# Altium schematic symbol library transformer.SchLib: 29 symbols
Pins are listed as number, name and electrical type; pins without a type are passive.

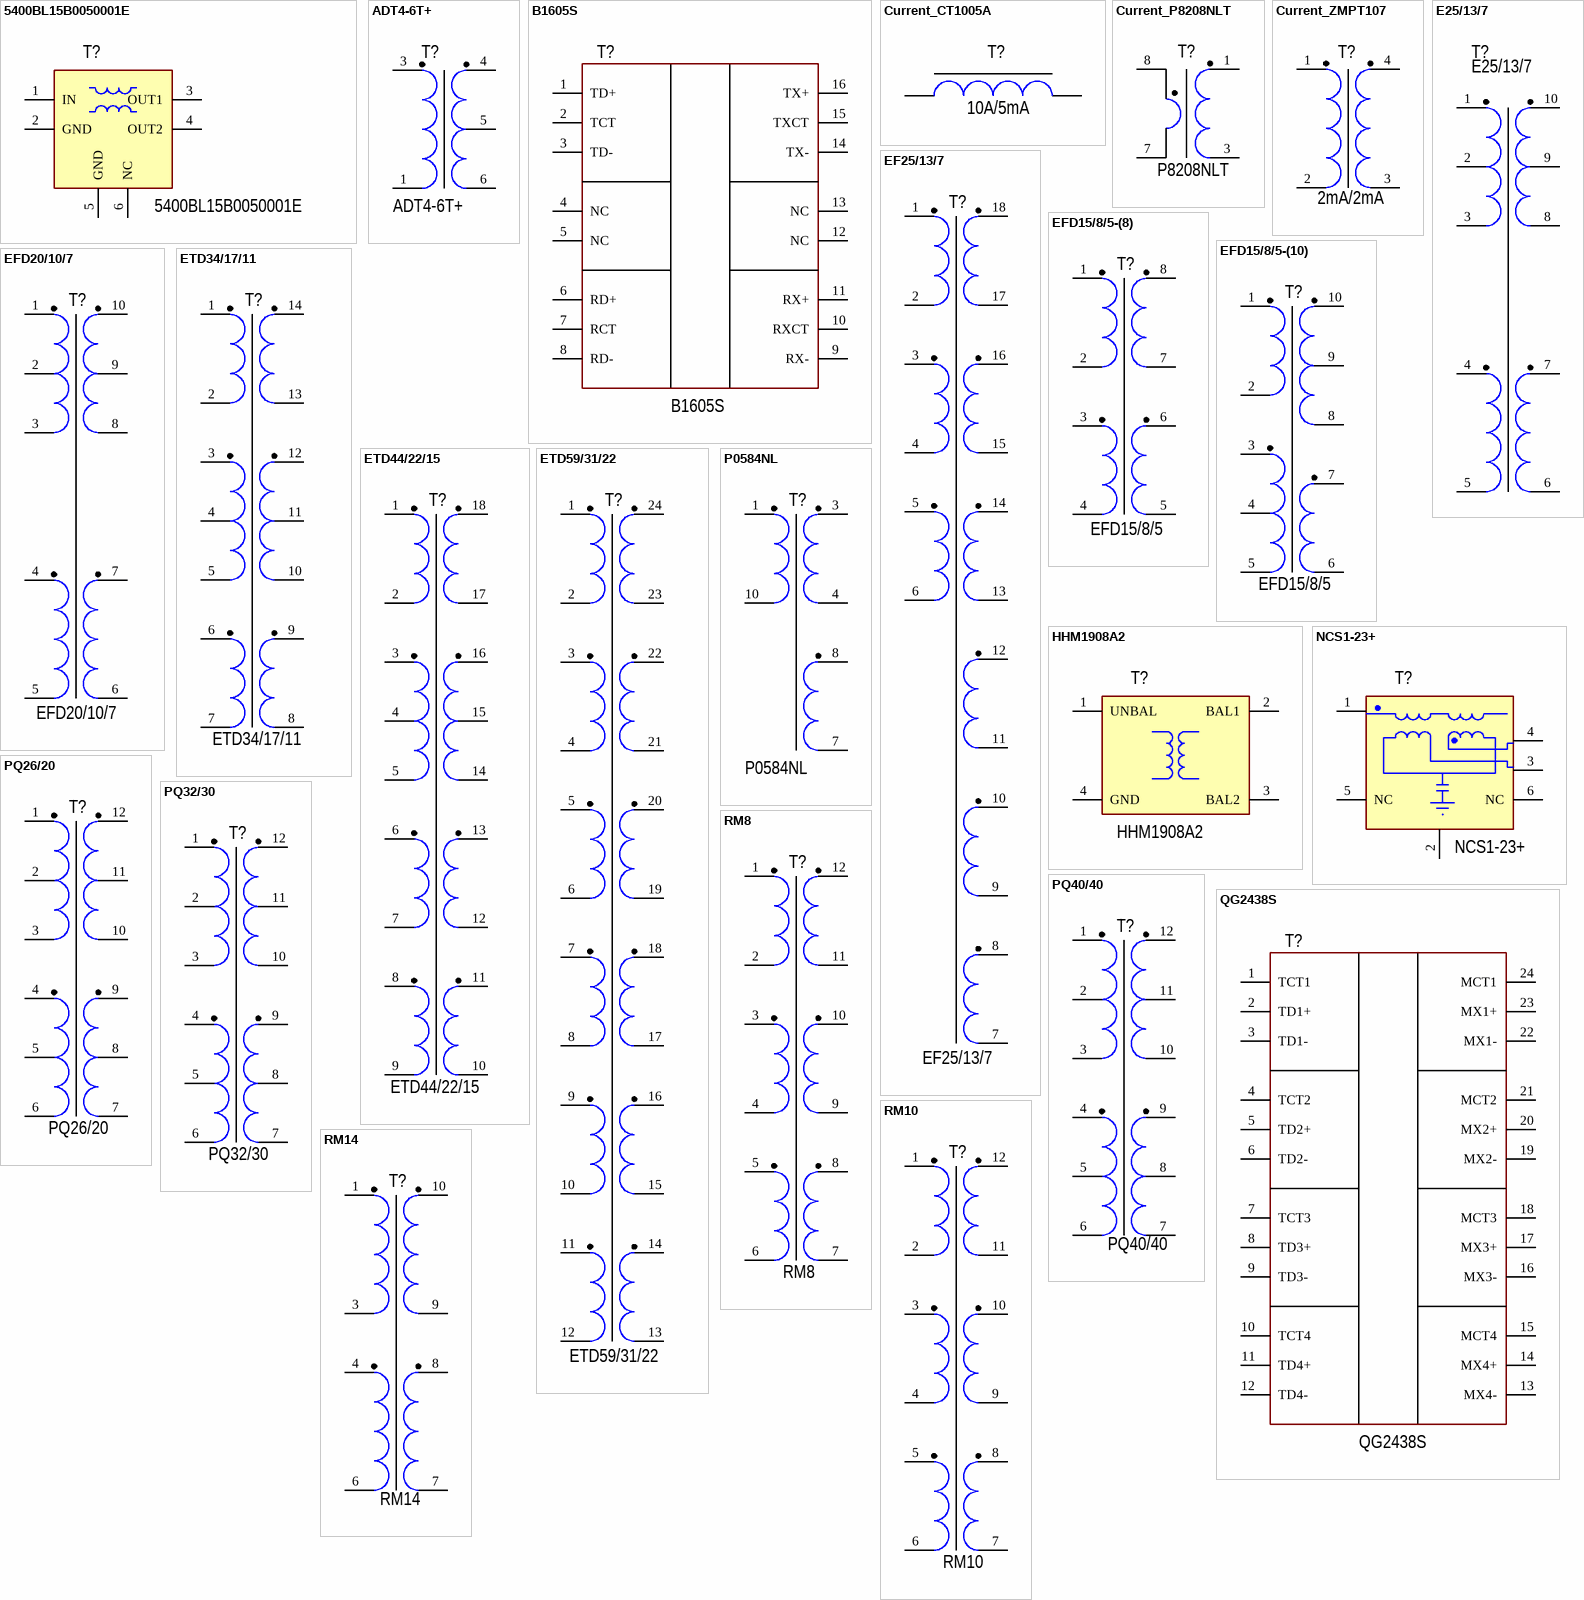
[diagram p0: symbols 5400BL15B0050001E to RM14]

## 5400BL15B0050001E
designator T?  PartNumber: 5400BL15B0050001E
Balun 4900-5900MHz; Manufacturer: Johanson; ValueManufacturerPartNumber: Balun, 4900...5900MHz; FrequencyRange: 4900...5900MHz; HelpURL: https://www.mouser.ee/datasheet/3/1017/1/johanson_integrated_passives_mxPAuIF.pdf; TypeTransformer: Balun
footprint TRANS: GE0805C-1
pins: 1 IN, 2 GND "Ground Externally", 3 OUT1, 4 OUT2, 5 GND, 6 NC

## ADT4-6T+
designator T?  PartNumber: ADT4-6T+
Transformer 0.06-300 MHz; Manufacturer: Mini-Circuits; ValueManufacturerPartNumber: Transformer, CD637; HelpURL: https://www.minicircuits.com/pdfs/ADT4-6T+.pdf; TypeTransformer: Transformer; Package: CD637
footprint TRANS: CD637 (ADT4-6T+)
pins: 1 (power), 3 (power), 4 (power), 5 (power), 6 (power)

## B1605S
designator T?  PartNumber: B1605S
10/100 POE; Manufacturer: CND-tek; ValueManufacturerPartNumber: LAN POE, SMD-16P; TypeTransformer: LAN POE; HelpURL: https://wmsc.lcsc.com/wmsc/upload/file/pdf/v2/lcsc/2405301629_CND-tek-B1605S_C3003217.pdf; Package: SMD-16P
footprint TRANS: ETH16P
pins: 1 TD+, 2 TCT, 3 TD-, 4 NC, 5 NC, 6 RD+, 7 RCT, 8 RD-, 9 RX-, 10 RXCT, 11 RX+, 12 NC, 13 NC, 14 TX-, 15 TXCT, 16 TX+

## Current_CT1005A
designator T?  Voltage: 10A/5mA
Manufacturer: Asia; ValueManufacturerPartNumber: Transformer, 10A/5mA, 0...250 Ohm; PartNumber: DL-CT1005A; TypeTransformer: Transformer; Power: 0...250 Ohm; HelpURL: https://ru.aliexpress.com/item/32848841435.html?spm=a2g0v.search0104.3.2.64104769Wp7Ww8&ws_ab_test=searchweb0_0%2Csearchweb201602_10_10065_10068_319_317_10696_453_10084_454_10083_10618_10307_10301_537_536_10059_10884_10887_321_322_10915_10103_10914_10911_10910%2Csearchweb201603_52%2CppcSwitch_0&algo_expid=7e4b162f-38ca-419c-8891-4e3cfaf6b6a7-0&algo_pvid=7e4b162f-38ca-419c-8891-4e3cfaf6b6a7&transAbTest=ae803_5
footprint TRANS: DL-CT1005A
footprint TRANS: ZMCT102
pins: 1 (power), 2 (power)

## Current_P8208NLT
designator T?  PartNumber: P8208NLT
Manufacturer: Pulse Electronics; ValueManufacturerPartNumber: Current transformer, 1:100, 50...1000 kHz; TypeTransformer: Current transformer; Power: 50...1000 kHz; Voltage: 1:100; HelpURL: https://www.digikey.com/product-detail/en/pulse-electronics-power/P8208NLT/553-1523-1-ND/2362921
footprint TRANS: P8208NLT
pins: 1 (power), 3 (power), 7 (power), 8 (power)

## Current_ZMPT107
designator T?  Current: 2mA/2mA
Manufacturer: Asia; ValueManufacturerPartNumber: Transformer, 1000:1000, 2mA/2mA; PartNumber: ZMPT107; TypeTransformer: Transformer; TurnsRatio: 1000:1000; HelpURL: https://aliexpress.ru/i/32958862009.html
footprint TRANS: ZMPT107
pins: 1 (power), 2 (power), 3 (power), 4 (power)

## E25/13/7
designator T?  Package: E25/13/7
Manufacturer: Epcos; ValueManufacturerPartNumber: Transformer, E25/13/7; PartNumber: B66208W1010T001; TypeTransformer: Transformer; HelpURL: http://ferrite.ru/warehouse/e-25-13-7-karkas-b66208w1010t001.html
footprint TRANS: E25/13/7
pins: 1 (power), 2 (power), 3 (power), 4 (power), 5 (power), 6 (power), 7 (power), 8 (power), 9 (power), 10 (power)

## EF25/13/7
designator T?  Package: EF25/13/7
Manufacturer: Feryster; ValueManufacturerPartNumber: Transformer, EF25/13/7; PartNumber: EF25_7-K-H-19P-MP; TypeTransformer: Transformer; HelpURL: https://feryster.com.pl/polski/podglad.php?lang=pl&id=404
footprint TRANS: EF25/13/7
pins: 1 (power), 2 (power), 3 (power), 4 (power), 5 (power), 6 (power), 7 (power), 8 (power), 9 (power), 10 (power), 11 (power), 12 (power), 13 (power), 14 (power), 15 (power), 16 (power), 17 (power), 18 (power)

## EFD15/8/5-(8)
designator T?  Package: EFD15/8/5
Manufacturer: Epcos; ValueManufacturerPartNumber: Transformer, EFD15/8/5; PartNumber: B66414W1008D001; TypeTransformer: Transformer; HelpURL: https://ferrite.ru/warehouse/efd-15-8-5-karkas-b66414w1008d001.html
footprint TRANS: EFD15/8/5 - (8)
pins: 1 (power), 2 (power), 3 (power), 4 (power), 5 (power), 6 (power), 7 (power), 8 (power)

## EFD15/8/5-(10)
designator T?  Package: EFD15/8/5
Manufacturer: Asia; ValueManufacturerPartNumber: Transformer, EFD15/8/5; PartNumber: E-027; TypeTransformer: Transformer; HelpURL: http://ferrite.ru/warehouse/efd15-8-5-karkas-1-sek-10-vyv-smd-e-027.html
footprint TRANS: EFD15/8/5 - (10)
pins: 1 (power), 2 (power), 3 (power), 4 (power), 5 (power), 6 (power), 7 (power), 8 (power), 9 (power), 10 (power)

## EFD20/10/7
designator T?  Package: EFD20/10/7
Manufacturer: Asia; ValueManufacturerPartNumber: Transformer, EFD20/10/7; PartNumber: E-066; TypeTransformer: Transformer; HelpURL: http://ferrite.ru/warehouse/efd20-10-7-karkas-1-sek-10-vyv-smd-e-066.html
footprint TRANS: EFD20/10/7
pins: 1 (power), 2 (power), 3 (power), 4 (power), 5 (power), 6 (power), 7 (power), 8 (power), 9 (power), 10 (power)

## ETD34/17/11
designator T?  Package: ETD34/17/11
Manufacturer: Epcos; ValueManufacturerPartNumber: Transformer, ETD34/17/11; PartNumber: B66362B1014T001; TypeTransformer: Transformer; HelpURL: http://ferrite.ru/warehouse/etd-34-17-11-karkas-b66362b1014t001.html
footprint TRANS: ETD34/17/11
pins: 1 (power), 2 (power), 3 (power), 4 (power), 5 (power), 6 (power), 7 (power), 8 (power), 9 (power), 10 (power), 11 (power), 12 (power), 13 (power), 14 (power)

## ETD44/22/15
designator T?  Package: ETD44/22/15
Manufacturer: Epcos; ValueManufacturerPartNumber: Transformer, ETD44/22/15; PartNumber: B66362B1014T001; TypeTransformer: Transformer; HelpURL: http://ferrite.ru/warehouse/etd-34-17-11-karkas-b66362b1014t001.html
footprint TRANS: ETD44/22/15
pins: 1 (power), 2 (power), 3 (power), 4 (power), 5 (power), 6 (power), 7 (power), 8 (power), 9 (power), 10 (power), 11 (power), 12 (power), 13 (power), 14 (power), 15 (power), 16 (power), 17 (power), 18 (power)

## ETD59/31/22
designator T?  Package: ETD59/31/22
Manufacturer: Epcos; ValueManufacturerPartNumber: Transformer, ETD59/31/22; PartNumber: B66398W1024T001; TypeTransformer: Transformer; HelpURL: http://ferrite.ru/warehouse/etd-59-31-22-karkas-b66398w1024t001.html
footprint TRANS: ETD59/31/22
pins: 1 (power), 2 (power), 3 (power), 4 (power), 5 (power), 6 (power), 7 (power), 8 (power), 9 (power), 10 (power), 11 (power), 12 (power), 13 (power), 14 (power), 15 (power), 16 (power), 17 (power), 18 (power), 19 (power), 20 (power), 21 (power), 22 (power), 23 (power), 24 (power)

## HHM1908A2
designator T?  PartNumber: HHM1908A2
Balun 4900-5950MHz; Manufacturer: TDK; ValueManufacturerPartNumber: Balun, 4900...5950MHz; FrequencyRange: 4900...5950MHz; HelpURL: https://product.tdk.com/system/files/dam/doc/product/rf/rf/balun/catalog/rf_balun_hhm1908a2_en.pdf; TypeTransformer: Balun
footprint BALUN: EIA 0402
pins: 1 UNBAL, 2 BAL1, 3 BAL2, 4 GND

## NCS1-23+
designator T?  PartNumber: NCS1-23+
Balun 1300-2000MHz; Manufacturer: Mini-Circuits; ValueManufacturerPartNumber: Balun, 1300...2000MHz; FrequencyRange: 1300...2000MHz; HelpURL: https://www.minicircuits.com/pdfs/NCS1-23+.pdf; TypeTransformer: Balun
footprint TRANS: GE0805C-1
pins: 1 PRIM, 2 PRIM (GND), 3 BAL2, 4 BAL1, 5 NC "Ground Externally", 6 NC

## P0584NL
designator T?  Package: P0584NL
GDT 1:1:1; Manufacturer: Pulse Electronics; ValueManufacturerPartNumber: Transformer, P0584NL; TypeTransformer: Transformer; HelpURL: https://www.mouser.ee/datasheet/2/447/P515-2903884.pdf; PartNumber: P0584NL
footprint TRANS: P0584
pins: 1 (power), 3 (power), 4 (power), 7 (power), 8 (power), 10 (power)

## PQ26/20
designator T?  Package: PQ26/20
Manufacturer: Epcos; ValueManufacturerPartNumber: Transformer, PQ26/20; PartNumber: B65878E0012D001; TypeTransformer: Transformer; HelpURL: http://ferrite.ru/warehouse/pq-26-20-karkas-b65878e0012d001.html
footprint TRANS: PQ26/20
pins: 1 (power), 2 (power), 3 (power), 4 (power), 5 (power), 6 (power), 7 (power), 8 (power), 9 (power), 10 (power), 11 (power), 12 (power)

## PQ32/30
designator T?  Package: PQ32/30
Manufacturer: Epcos; ValueManufacturerPartNumber: Transformer, PQ32/30; PartNumber: B65879B0000R087; TypeTransformer: Transformer; HelpURL: https://ru.mouser.com/ProductDetail/EPCOS-TDK/B65879B0000R087?qs=%2Fha2pyFaduiTdEjslNDxXMea%252BWmSMKe1XT39uZfFPyukz%252BcIY0fkeQ%3D%3D
footprint TRANS: PQ32/30
pins: 1 (power), 2 (power), 3 (power), 4 (power), 5 (power), 6 (power), 7 (power), 8 (power), 9 (power), 10 (power), 11 (power), 12 (power)

## PQ40/40
designator T?  Package: PQ40/40
Manufacturer: Epcos; ValueManufacturerPartNumber: Transformer, PQ40/40; PartNumber: B65884E0012D001; TypeTransformer: Transformer; HelpURL: https://ru.mouser.com/ProductDetail/EPCOS-TDK/B65884E0012D001?qs=sGAEpiMZZMukHu%252BjC5l7YdedC9m8ek6SlE%2Fd9SU%252Bw9s%3D
footprint TRANS: PQ40/40
pins: 1 (power), 2 (power), 3 (power), 4 (power), 5 (power), 6 (power), 7 (power), 8 (power), 9 (power), 10 (power), 11 (power), 12 (power)

## QG2438S
designator T?  PartNumber: QG2438S
1000M POE; Manufacturer: CND-tek; ValueManufacturerPartNumber: LAN POE, SMD-24P; TypeTransformer: LAN POE; HelpURL: https://wmsc.lcsc.com/wmsc/upload/file/pdf/v2/lcsc/2405301628_CND-tek-QG2438S_C3003222.pdf; Package: SMD-24P
footprint TRANS: ETH24PW
pins: 1 TCT1, 2 TD1+, 3 TD1-, 4 TCT2, 5 TD2+, 6 TD2-, 7 TCT3, 8 TD3+, 9 TD3-, 10 TCT4, 11 TD4+, 12 TD4-, 13 MX4-, 14 MX4+, 15 MCT4, 16 MX3-, 17 MX3+, 18 MCT3, 19 MX2-, 20 MX2+, 21 MCT2, 22 MX1-, 23 MX1+, 24 MCT1

## RM8
designator T?  Package: RM8
Manufacturer: Epcos; ValueManufacturerPartNumber: Transformer, RM8; PartNumber: B65812N1012D001; TypeTransformer: Transformer; HelpURL: http://ferrite.ru/warehouse/rm-8-karkas-b65812n1012d001.html
footprint TRANS: RM8 v.1
footprint TRANS: RM8 v.2
pins: 1 (power), 2 (power), 3 (power), 4 (power), 5 (power), 6 (power), 7 (power), 8 (power), 9 (power), 10 (power), 11 (power), 12 (power)

## RM10
designator T?  Package: RM10
Manufacturer: Ferroxcube; ValueManufacturerPartNumber: Transformer, RM10; PartNumber: CSV-RM10-1S-12P-C; TypeTransformer: Transformer; HelpURL: http://ferrite.ru/warehouse/rm10-karkas-csv-rm-10-1s-12p-c.html
footprint TRANS: RM10
pins: 1 (power), 2 (power), 3 (power), 4 (power), 5 (power), 6 (power), 7 (power), 8 (power), 9 (power), 10 (power), 11 (power), 12 (power)

## RM14
designator T?  Package: RM14
Manufacturer: Epcos; ValueManufacturerPartNumber: Transformer, RM14; PartNumber: B65888N1010D001; TypeTransformer: Transformer; HelpURL: http://ferrite.ru/warehouse/rm-14-karkas-b65888n1010d001.html
footprint TRANS: RM14 (TR V.1)
pins: 1 (power), 3 (power), 4 (power), 6 (power), 7 (power), 8 (power), 9 (power), 10 (power)

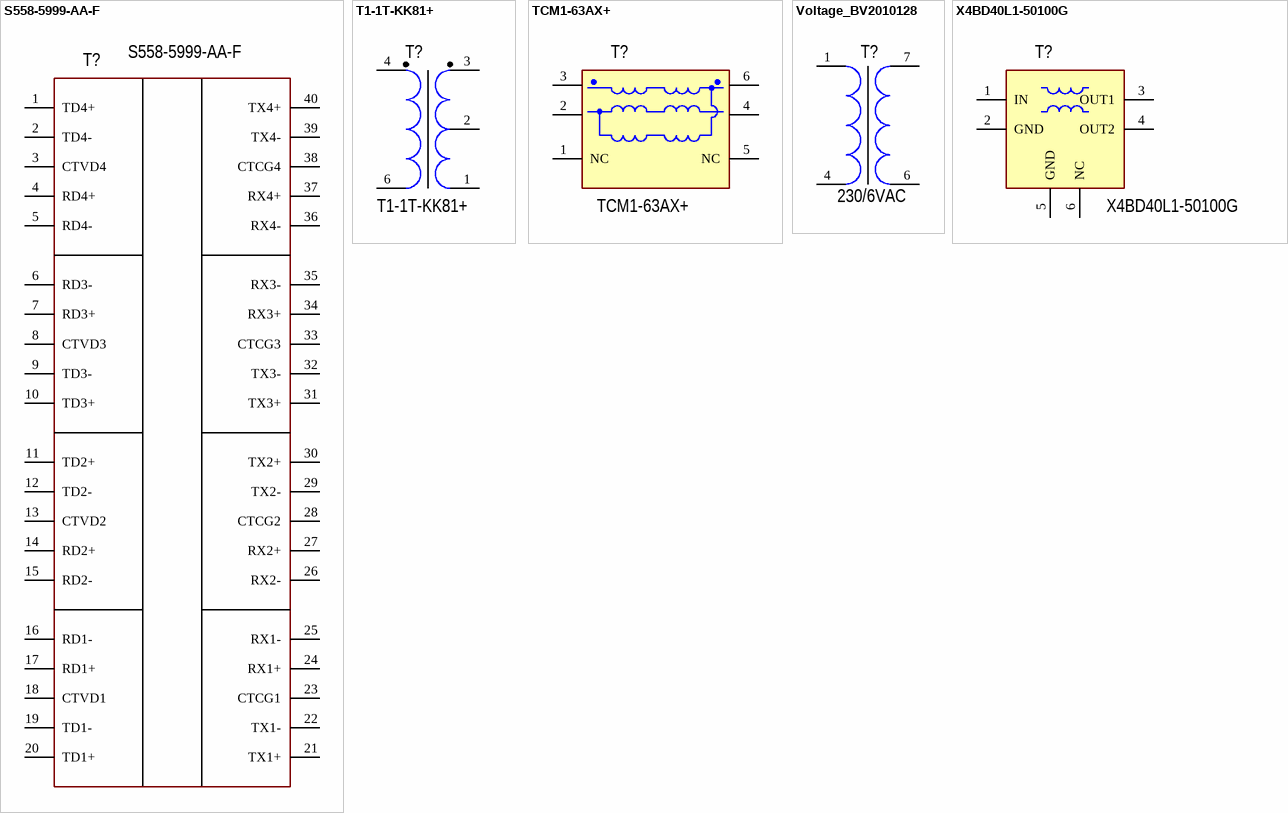
[diagram p1: symbols S558-5999-AA-F to X4BD40L1-50100G]

## S558-5999-AA-F
designator T?  PartNumber: S558-5999-AA-F
10/100 Base-T 4 port; Manufacturer: Bel Magnetic Solutions; ValueManufacturerPartNumber: Transformer, SMD 40PIN; TypeTransformer: Transformer; HelpURL: https://www.mouser.ee/datasheet/2/643/dr_mag_s558_5999_aa_f-1310169.pdf; Package: SMD 40PIN
footprint TRANS: ETH40P
pins: 1 TD4+, 2 TD4-, 3 CTVD4, 4 RD4+, 5 RD4-, 6 RD3-, 7 RD3+, 8 CTVD3, 9 TD3-, 10 TD3+, 11 TD2+, 12 TD2-, 13 CTVD2, 14 RD2+, 15 RD2-, 16 RD1-, 17 RD1+, 18 CTVD1, 19 TD1-, 20 TD1+, 21 TX1+, 22 TX1-, 23 CTCG1, 24 RX1+, 25 RX1-, 26 RX2-, 27 RX2+, 28 CTCG2, 29 TX2-, 30 TX2+, 31 TX3+, 32 TX3-, 33 CTCG3, 34 RX3+, 35 RX3-, 36 RX4-, 37 RX4+, 38 CTCG4, 39 TX4-, 40 TX4+

## T1-1T-KK81+
designator T?  PartNumber: T1-1T-KK81+
Manufacturer: Mini-Circuits; ValueManufacturerPartNumber: Transformer, KK81; TypeTransformer: Transformer; HelpURL: https://www.mouser.ee/datasheet/2/1030/T1_1T_KK81-2956297.pdf; Package: KK81
footprint TRANS: KK81
pins: 1 (power), 2 (power), 3 (power), 4 (power), 6 (power)

## TCM1-63AX+
designator T?  PartNumber: TCM1-63AX+
Balun 10-6000MHz; Manufacturer: TDK; ValueManufacturerPartNumber: Balun, 10...6000MHz; FrequencyRange: 10...6000MHz; HelpURL: https://www.minicircuits.com/pdfs/TCM1-63AX+.pdf; TypeTransformer: Balun
footprint TRANS: DB1627 (TCM1-63AX+)
pins: 1 NC, 2 PRIM, 3 PRIM, 4 BAL2, 5 NC, 6 SND

## Voltage_BV2010128
designator T?  Voltage: 230/6VAC
Manufacturer: Hahn Trafo; ValueManufacturerPartNumber: Transformer, 230/6VAC, 0.35W; PartNumber: BV2010128; TypeTransformer: Transformer; Power: 0.35W; HelpURL: https://www.electronshik.ru/item/HAHN/BV%20201%200128
footprint TRANS: BV 201 0128
pins: 1 (power), 4 (power), 6 (power), 7 (power)

## X4BD40L1-50100G
designator T?  PartNumber: X4BD40L1-50100G
Balun 2300-6000MHz; Manufacturer: TTM Technologies; ValueManufacturerPartNumber: Balun, 2300...6000MHz; FrequencyRange: 2300...6000MHz; HelpURL: https://www.mouser.ee/datasheet/3/870/1/DA2E0F277DD18CA408BB44BD79736639581B1B83E1942C68EE76A97A71C5F566.pdf; TypeTransformer: Balun
footprint TRANS: X4BD40L1-50100G
pins: 1 IN, 2 GND "Ground Externally", 3 OUT1, 4 OUT2, 5 GND, 6 NC